# Altium schematic symbol library General IC.SchLib: 41 symbols
Pins are listed as number, name and electrical type; pins without a type are passive.

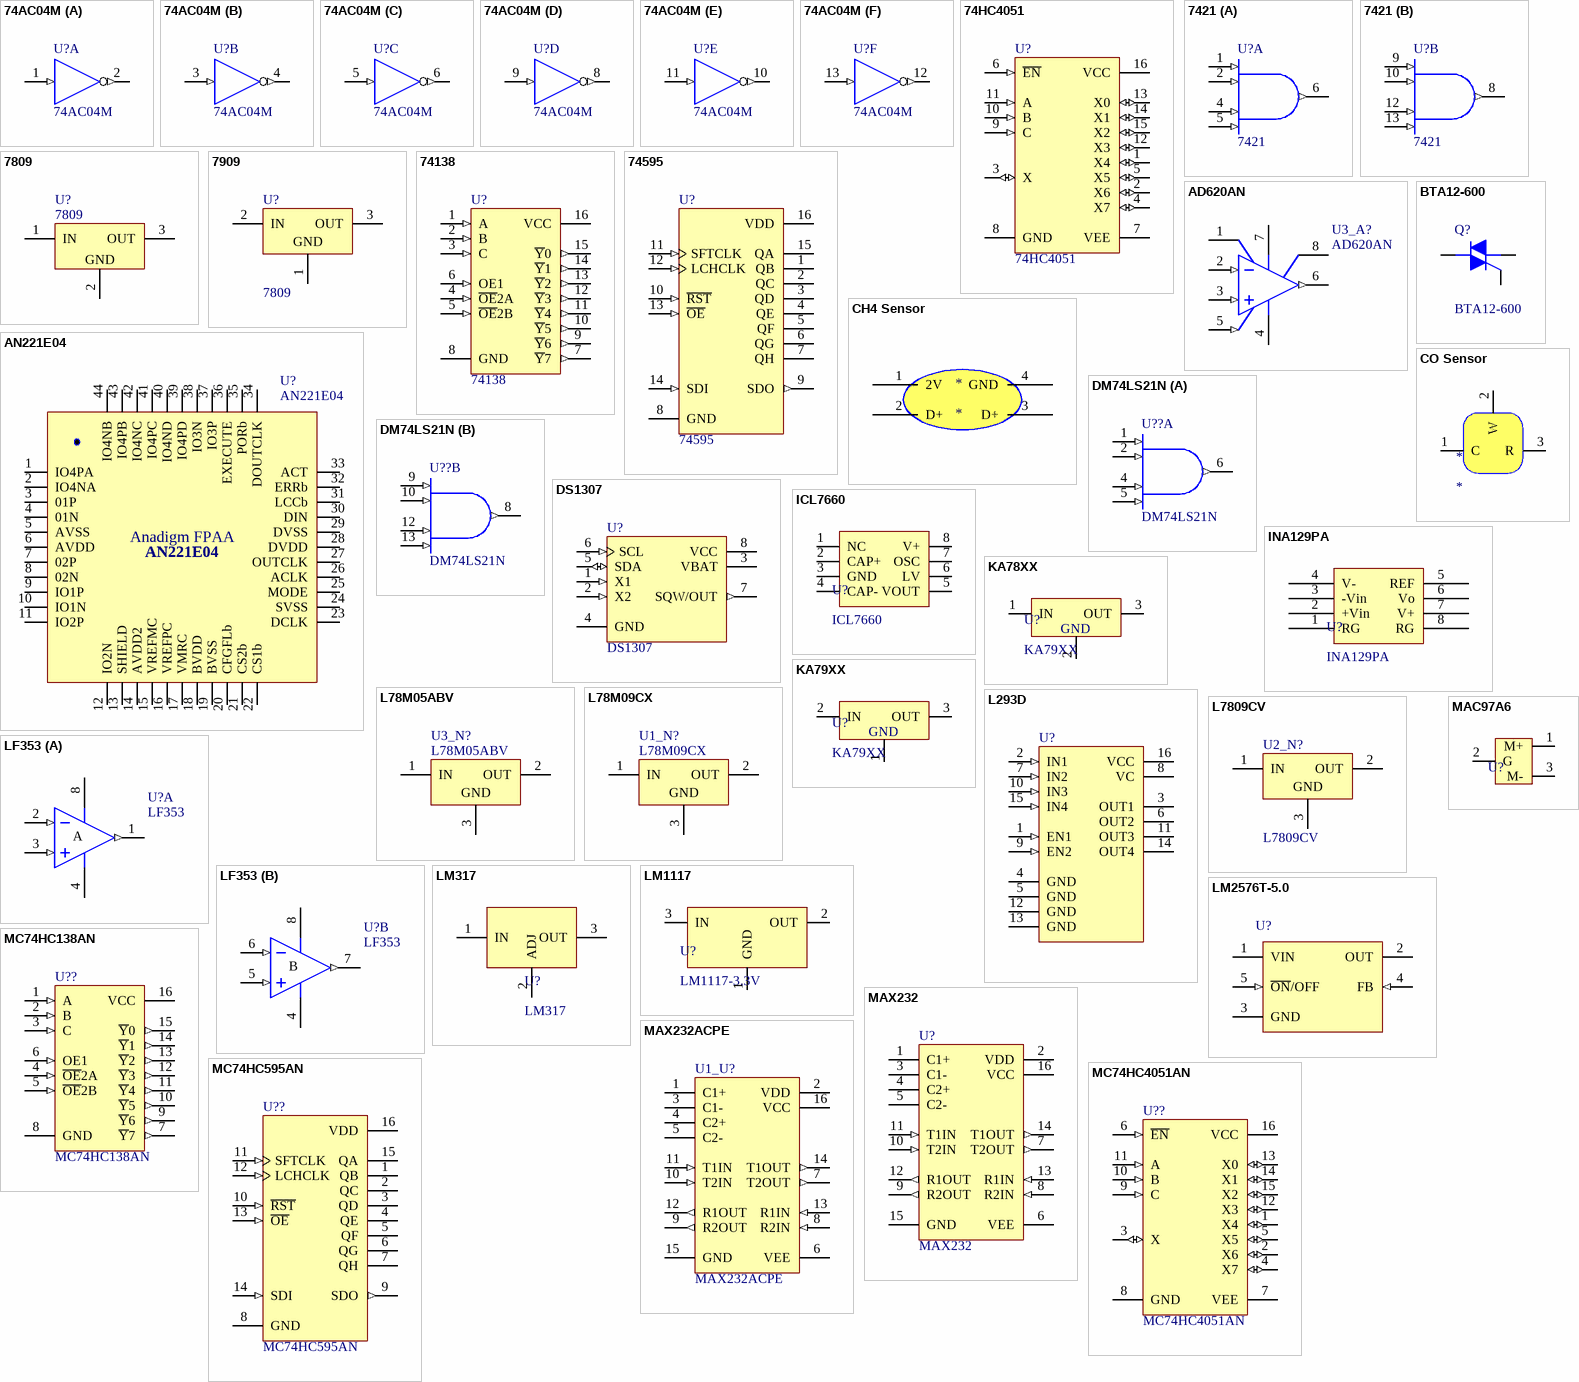
[diagram p0: symbols 74AC04M to MC74HC4051AN]

## 74AC04M
designator U?
Hex Inverter; Published: 8-Jun-2000; LatestRevisionDate: 17-Jul-2002; LatestRevisionNote: Re-released for DXP Platform.; DatasheetDocument: Apr-1997; PackageDocument: Sep-1998; PackageReference: SO14; Publisher: Altium Limited
footprint 74HC04 (SOIC, 14-Leads, Body 8.7x3.9mm, Pitch 1.27mm, IPC Low Density)
signal-integrity model 74AC04M
pins on every part: 7 GND (power) hidden to GND, 14 VCC (power) hidden to VCC
part A pins: 1 A (in), 2 Y (out)
part B pins: 3 A (in), 4 Y (out)
part C pins: 5 A (in), 6 Y (out)
part D pins: 8 Y (out), 9 A (in)
part E pins: 10 Y (out), 11 A (in)
part F pins: 12 Y (out), 13 A (in)

## 74HC4051
designator U?
Analog Multiplexer/Demultiplexer; Published: 17-Jul-2002; LatestRevisionDate: 06-Jun-2005; LatestRevisionNote: Stylized 3D Model Added; DatasheetVersion: Mar-2000; PackageReference: 648-08; Publisher: Altium Limited; PackageDescription: DIP; 16 Leads; Row Spacing 7.62 mm; Pitch 2.54 mm; Code_JEDEC: MS-001-BB; ComponentLink1Description: Manufacturer Link; ComponentLink1URL: http://www.onsemi.com/site/products/parametrics/0,4446,47,00.html; ComponentLink2Description: Datasheet; ComponentLink2URL: http://www.onsemi.com/pub/Collateral/MC74HC4051A-D.PDF
footprint DIP.100/16/W.300/L.900
pins: 1 X4 (io), 2 X6 (io), 3 X (io), 4 X7 (io), 5 X5 (io), 6 ~{EN} (in), 7 VEE (power), 8 GND (power), 9 C (in), 10 B (in), 11 A (in), 12 X3 (io), 13 X0 (io), 14 X1 (io), 15 X2 (io), 16 VCC (power)

## 7421
designator U?
Dual 4-Input AND Gates; Note: Pins 3 and 11 are NC & not drawn; Published: 15-Apr-2002; LatestRevisionDate: 06-Jun-2005; LatestRevisionNote: Stylized 3D Model Added.; DatasheetVersion: Jun-1989; PackageVersion: 2000; PackageReference: N14A; Publisher: Altium Limited; PackageDescription: DIP; 14 Leads; Row Spacing 7.62 mm; Pitch 2.54 mm; ComponentLink1Description: Manufacturer Link; ComponentLink1URL: http://www.national.com/
footprint DIP.100/14/W.300/L.900
pins on every part: 7 GND (power) hidden to GND, 14 VCC (power) hidden to VCC
part A pins: 1 A (in), 2 B (in), 4 C (in), 5 D (in), 6 Y (out)
part B pins: 8 Y (out), 9 A (in), 10 B (in), 12 C (in), 13 D (in)

## 7809
designator U?
Positive Voltage Regulator; Note: Tab is connected to pin 3 (GND).; Published: 24-Aug-2001; LatestRevisionDate: 17-Jul-2002; LatestRevisionNote: Re-released for DXP Platform.; DatasheetVersion: Apr-1994; PackageReference: SOT82C; Publisher: Altium Limited; PackageDescription: SIP; 3 Leads; Body 10.9 x 7.6 x 2.6 mm (typ); Pitch 2.2 mm; ComponentLink1Description: Manufacturer Link; ComponentLink1URL: http://www.st.com/; ComponentLink2Description: Datasheet; ComponentLink2URL: http://www.st.com/stonline/products/literature/ds/2146/l78m05c.pdf
footprint HDR1x3 BIG (3 chan cam 7805, BJT to, FET to...)
pins: 1 IN (power), 2 GND (power), 3 OUT (power)

## 7909
designator U?, comment 7809
Positive Voltage Regulator; Note: Tab is connected to pin 3 (GND).; Published: 24-Aug-2001; LatestRevisionDate: 17-Jul-2002; LatestRevisionNote: Re-released for DXP Platform.; DatasheetVersion: Dec-1998; PackageVersion: Jun-1998; PackageReference: TO220ABN; Publisher: Altium Limited; PackageDescription: TO, Thru-Hole, Vertical, Heatsink Mounted; 3 In-Line Leads; Pitch 2.54 mm; Pin sequence 1, 3, 2; ComponentLink1Description: Manufacturer Link; ComponentLink1URL: http://www.st.com/
footprint HDR1x3 BIG (3 chan cam 7805, BJT to, FET to...)
pins: 1 GND (power), 2 IN (power), 3 OUT (power)

## 74138
designator U?
1-of-8 Decoder/Demultiplexer; Published: 15-Apr-2002; DatasheetVersion: Mar-2000; PackageVersion: Apr-2000; PackageReference: 648-08; Publisher: Altium Limited; PackageDescription: DIP; 16 Leads; Row Spacing 7.62 mm; Pitch 2.54 mm; Code_JEDEC: MS-001-BB; ComponentLink1Description: Manufacturer Link; ComponentLink1URL: http://www.onsemi.com/; ComponentLink2Description: Datasheet; ComponentLink2URL: http://www.onsemi.com/pub/Collateral/MC74HC138A-D.PDF
footprint DIP.100/16/W.300/L.900
signal-integrity model MC74HC138AN
pins: 1 A (in), 2 B (in), 3 C (in), 4 ~{OE}2A (in), 5 ~{OE}2B (in), 6 OE1 (in), 7 ~{Y}7 (out), 8 GND (power), 9 ~{Y}6 (out), 10 ~{Y}5 (out), 11 ~{Y}4 (out), 12 ~{Y}3 (out), 13 ~{Y}2 (out), 14 ~{Y}1 (out), 15 ~{Y}0 (out), 16 VCC (power)

## 74595
designator U?
8-Bit Serial-Input/Serial or Prallel-Output Shift Register with Latched 3-State Outputs; Published: 15-Apr-2002; DatasheetVersion: Mar-2000; PackageVersion: Apr-2000; PackageReference: 648-08; Publisher: Altium Limited; PackageDescription: DIP; 16 Leads; Row Spacing 7.62 mm; Pitch 2.54 mm; Code_JEDEC: MS-001-BB; ComponentLink1Description: Manufacturer Link; ComponentLink1URL: http://www.onsemi.com/; ComponentLink2Description: Datasheet; ComponentLink2URL: http://www.onsemi.com/pub/Collateral/MC74HC595A-D.PDF
footprint DIP.100/16/W.300/L.900
signal-integrity model MC74HC595AN
pins: 1 QB (hiz), 2 QC (hiz), 3 QD (hiz), 4 QE (hiz), 5 QF (hiz), 6 QG (hiz), 7 QH (hiz), 8 GND (power), 9 SDO (out), 10 ~{RST} (in), 11 SFTCLK (in), 12 LCHCLK (in), 13 ~{OE} (in), 14 SDI (in), 15 QA (hiz), 16 VDD (power)

## AD620AN
designator U3_A?
Low-Cost, Low-Power Instrumentation Amplifier; Published: 8-Jun-2000; LatestRevisionDate: 04-Mar-2005; LatestRevisionNote: Stylized 3D Model Added.; DatasheetVersion: REV.D 1998; PackageVersion: revA; PackageReference: N-8; Publisher: Altium Limited; PackageDescription: DIP; 8 Leads; Row Spacing 7.62 mm; Pitch 2.54 mm; ComponentLink1Description: Manufacturer Link; ComponentLink1URL: http://www.analog.com/en/prod/0%2C2877%2CAD620%2C00.html; ComponentLink2Description: Datasheet; ComponentLink2URL: http://www.analog.com/UploadedFiles/Data_Sheets/897653854AD620_g.pdf
footprint DIP.100/8/W.300/L.400
pins: 1 RG, 2 -IN (in), 3 +IN (in), 4 V- (power), 5 REF (in), 6 OUT (out), 7 V+ (power), 8 RG

## AN221E04
designator U?
Anadigm FPAA - AN221E04; Productor: Anadigm; Creator: Bien Nguyen
footprint TQFP (QFP, 44-Leads, Body 10x10mm, Pitch 0.8mm, IPC High Density)
pins: 1 IO4PA, 2 IO4NA, 3 01P, 4 01N, 5 AVSS, 6 AVDD, 7 02P, 8 02N, 9 IO1P, 10 IO1N, 11 IO2P, 12 IO2N, 13 SHIELD, 14 AVDD2, 15 VREFMC, 16 VREFPC, 17 VMRC, 18 BVDD, 19 BVSS, 20 CFGFLb, 21 CS2b, 22 CS1b, 23 DCLK, 24 SVSS, 25 MODE, 26 ACLK, 27 OUTCLK, 28 DVDD, 29 DVSS, 30 DIN, 31 LCCb, 32 ERRb, 33 ACT, 34 DOUTCLK, 35 PORb, 36 EXECUTE, 37 IO3P, 38 IO3N, 39 IO4PD, 40 IO4ND, 41 IO4PC, 42 IO4NC, 43 IO4PB, 44 IO4NB
2 alternate drawings of the same symbol
text: Anadigm FPAA

## BTA12-600
designator Q?
Silicon Bidirectional Triode Thyristor; Note: Pin 2 is electrically connected to Pin 4 (TAB); Published: 29-Sep-2000; LatestRevisionDate: 17-Jul-2002; LatestRevisionNote: Re-released for DXP Platform.; DatasheetDocument: 1999; PackageReference: 369-03; Publisher: Altium Limited; Code_JEDEC: TO-251-AA; ComponentLink1Description: Manufacturer Link; ComponentLink1URL: http://www.motorola.com/
footprint BTA6-600 (TRIAC BTA6/6A/600V)
pins: 1 M1, 2 M2, 3 G

## CH4 Sensor
designator *
footprint CH4 Sensor
pins: 1 2V, 2 D+, 3 D+, 4 GND

## CO Sensor
designator *
footprint CO Sensor
pins: 1 C, 2 W, 3 R

## DM74LS21N
designator U??
Dual 4-Input AND Gates; Note: Pins 3 and 11 are NC & not drawn; Published: 15-Apr-2002; LatestRevisionDate: 06-Jun-2005; LatestRevisionNote: Stylized 3D Model Added.; DatasheetVersion: Jun-1989; PackageVersion: 2000; PackageReference: N14A; Publisher: Altium Limited; PackageDescription: DIP; 14 Leads; Row Spacing 7.62 mm; Pitch 2.54 mm; ComponentLink1Description: Manufacturer Link; ComponentLink1URL: http://www.national.com/
footprint DIP.100/14/W.300/L.900
pins on every part: 7 GND (power) hidden to GND, 14 VCC (power) hidden to VCC
part A pins: 1 A (in), 2 B (in), 4 C (in), 5 D (in), 6 Y (out)
part B pins: 8 Y (out), 9 A (in), 10 B (in), 12 C (in), 13 D (in)

## DS1307
designator U?
64 X 8 Serial Real-Time Clock; Published: 13-Oct-2000; LatestRevisionDate: 06-Jun-2005; LatestRevisionNote: Stylized 3D Model Added.; DatasheetVersion: 10-Aug-1999; PackageVersion: 1999; PackageReference: DIP8; Publisher: Altium Limited; PackageDescription: DIP; 8 Leads; Row Spacing 7.62 mm; Pitch 2.54 mm; ComponentLink1Description: Manufacturer Link; ComponentLink1URL: http://www.maxim-ic.com/; ComponentLink2Description: Datasheet; ComponentLink2URL: http://pdfserv.maxim-ic.com/en/ds/DS1307.pdf; ComponentLink3Description: Discontinuation Notice; ComponentLink3URL: http://www.maxim-ic.com/qa/pdfs/non-obsolescence-letter.pdf
footprint DIP.100/8/W.300/L.400
pins: 1 X1 (in), 2 X2 (in), 3 VBAT (power), 4 GND (power), 5 SDA (io), 6 SCL (in), 7 SQW/OUT (out), 8 VCC (power)

## ICL7660
designator U?
CMOS Voltage Converters; Creator: Nguyen Ba Bien
footprint DIP.100/8/W.300/L.400
pins: 1 NC, 2 CAP+, 3 GND, 4 CAP-, 5 VOUT, 6 LV, 7 OSC, 8 V+

## INA129PA
designator U?
footprint DIP.100/8/W.300/L.400
pins: 1 RG, 2 +Vin, 3 -Vin, 4 V-, 5 REF, 6 Vo, 7 V+, 8 RG

## KA78XX
designator U?, comment KA79XX
1A Regulator
footprint TO-220
pins: 1 IN, 2, 3 OUT
text: GND

## KA79XX
designator U?
1A Regulator
footprint TO-220
pins: 1, 2 IN, 3 OUT
text: GND

## L78M05ABV
designator U3_N?
Precision 500mA Regulator; Note: Tab is connected to pin 3 (GND).; Published: 24-Aug-2001; LatestRevisionDate: 17-Jul-2002; LatestRevisionNote: Re-released for DXP Platform.; DatasheetVersion: Mar-1997; PackageReference: TO220V; Publisher: Altium Limited; PackageDescription: TO, Thru-Hole, Vertical, Heatsink Mounted; 3 In-Line Leads; Pitch 2.54 mm; Pin sequence 1, 3, 2; ComponentLink1Description: Manufacturer Link; ComponentLink1URL: http://www.st.com/; ComponentLink2Description: Datasheet; ComponentLink2URL: http://www.st.com/stonline/products/literature/ds/2147/l78m05ab.pdf
footprint HDR1x3 BIG (3 chan cam 7805, BJT to, FET to...)
pins: 1 IN (power), 2 OUT (power), 3 GND (power)

## L78M09CX
designator U1_N?
Positive Voltage Regulator; Note: Tab is connected to pin 3 (GND).; Published: 24-Aug-2001; LatestRevisionDate: 17-Jul-2002; LatestRevisionNote: Re-released for DXP Platform.; DatasheetVersion: Apr-1994; PackageReference: SOT82C; Publisher: Altium Limited; PackageDescription: SIP; 3 Leads; Body 10.9 x 7.6 x 2.6 mm (typ); Pitch 2.2 mm; ComponentLink1Description: Manufacturer Link; ComponentLink1URL: http://www.st.com/; ComponentLink2Description: Datasheet; ComponentLink2URL: http://www.st.com/stonline/products/literature/ds/2146/l78m05c.pdf
footprint HDR1x3 BIG (3 chan cam 7805, BJT to, FET to...)
pins: 1 IN (power), 2 OUT (power), 3 GND (power)

## L293D
designator U?
Push-Pull Four Channel Driver With Diode; Published: 8-Jun-2000; LatestRevisionDate: 06-Jun-2005; LatestRevisionNote: Stylized 3D Model Added.; DatasheetVersion: Jun-1996; PackageVersion: Apr-1996; PackageReference: DIP16; Publisher: Altium Limited; PackageDescription: DIP; 16 Leads; Row Spacing 7.62 mm; Pitch 2.54 mm; ComponentLink1Description: Manufacturer Link; ComponentLink1URL: http://www.st.com/; ComponentLink2Description: Datasheet; ComponentLink2URL: http://www.st.com/stonline/products/literature/ds/1330/l293d.pdf
footprint DIP.100/16/W.300/L.900
pins: 1 EN1 (in), 2 IN1 (in), 3 OUT1 (hiz), 4 GND (power), 5 GND (power), 6 OUT2 (hiz), 7 IN2 (in), 8 VC (power), 9 EN2 (in), 10 IN3 (in), 11 OUT3 (hiz), 12 GND (power), 13 GND (power), 14 OUT4 (hiz), 15 IN4 (in), 16 VCC (power)

## L7809CV
designator U2_N?
Positive Voltage Regulator; Note: Tab is connected to pin 3 (GND).; Published: 24-Aug-2001; LatestRevisionDate: 17-Jul-2002; LatestRevisionNote: Re-released for DXP Platform.; DatasheetVersion: Dec-1998; PackageVersion: Jun-1998; PackageReference: TO220ABN; Publisher: Altium Limited; PackageDescription: TO, Thru-Hole, Vertical, Heatsink Mounted; 3 In-Line Leads; Pitch 2.54 mm; Pin sequence 1, 3, 2; ComponentLink1Description: Manufacturer Link; ComponentLink1URL: http://www.st.com/
footprint HDR1x3 BIG (3 chan cam 7805, BJT to, FET to...)
pins: 1 IN (power), 2 OUT (power), 3 GND (power)

## LF353
designator U?
Dual Operational Amplifier (JFET); Creator: Nguyen Ba Bien
footprint SOP127P636-8N (Footprint not found)
pins on every part: 4 V- (power), 8 V+ (power)
part A pins: 1 OUT (out), 2 IN- (in), 3 IN+ (in)
part B pins: 5 IN+ (in), 6 IN- (in), 7 OUT (out)
part A text: A
part B text: B

## LM317
designator U?
Contact Email: bien-nb@thanglongie.com; Creator: Nguyen Ba Bien
footprint TO-220
pins: 1 IN, 2 ADJ, 3 OUT

## LM1117
designator U?, comment LM1117-3.3V
800mA Low-Dropout Linear Regulator; Creator: Nguyen Ba Bien; Website: http://group3i.net
footprint LM1117-SOP
pins: 1 GND, 2 OUT, 3 IN

## LM2576T-5.0
designator U?
SIMPLE SWITCHER; 3A Step-Down Voltage Regulator; PartNumber: LM2576T-5.0; Manufacturer: National Semiconductor; PackageTopMarking: NSUZXYTT*LM2576T*-5.0 P+; PowerWise: N; FirstPublished: 4-Dec-2008; DatasheetVersion: Aug-2004; PackageVersion: revJ, Jan-1992; PackageReference: T05A; Publisher: Altium Limited; PackageDescription: TO-220, Molded, 5 Lead, Straight; CompType: Switcher; RoHS: O; PinCount: 5; DigiKeyPartNumber: LM2576T-5.0-ND; Code_JEDEC: TO-220-AB; ComponentLink1Description: LM2576 Datasheet; ComponentLink1URL: http://www.national.com/ds/LM/LM2576.pdf; ComponentLink2Description: LM2576 Web Page; ComponentLink2URL: http://www.national.com/pf/LM/LM2576.html; ComponentLink3Description: T05A Package Page; ComponentLink3URL: http://www.national.com/packaging/folders/t05a.html
footprint LM2576t
pins: 1 VIN (power), 2 OUT (power), 3 GND (power), 4 FB (in), 5 ~{ON}/OFF (in)

## MAC97A6
designator U?  (value not drawn)
pins: 1 M+, 2 G, 3 M-

## MAX232
designator U?
+5V Powered, Multi-Channel RS-232 Driver/Receiver; Published: 16-Jan-2001; LatestRevisionDate: 06-Jun-2005; LatestRevisionNote: Stylized 3D Model Added.; PackageVersion: 1997; PackageReference: PE16A; Publisher: Altium Limited; PackageDescription: DIP; 16 Leads; Row Spacing 7.62 mm; Pitch 2.54 mm; Code_JEDEC: MS-001-BB; ComponentLink1Description: Manufacturer Link; ComponentLink1URL: http://www.maxim-ic.com/; ComponentLink2Description: Datasheet; ComponentLink2URL: http://pdfserv.maxim-ic.com/en/ds/MAX220-MAX249.pdf
footprint DIP.100/16/W.300/L.900
pins: 1 C1+, 2 VDD (power), 3 C1-, 4 C2+, 5 C2-, 6 VEE (power), 7 T2OUT (out), 8 R2IN (in), 9 R2OUT (out), 10 T2IN (in), 11 T1IN (in), 12 R1OUT (out), 13 R1IN (in), 14 T1OUT (out), 15 GND (power), 16 VCC (power)

## MAX232ACPE
designator U1_U?
+5V Powered, Multi-Channel RS-232 Driver/Receiver; Published: 16-Jan-2001; LatestRevisionDate: 06-Jun-2005; LatestRevisionNote: Stylized 3D Model Added.; PackageVersion: 1997; PackageReference: PE16A; Publisher: Altium Limited; PackageDescription: DIP; 16 Leads; Row Spacing 7.62 mm; Pitch 2.54 mm; Code_JEDEC: MS-001-BB; ComponentLink1Description: Manufacturer Link; ComponentLink1URL: http://www.maxim-ic.com/; ComponentLink2Description: Datasheet; ComponentLink2URL: http://pdfserv.maxim-ic.com/en/ds/MAX220-MAX249.pdf
footprint DIP.100/16/W.300/L.900
pins: 1 C1+, 2 VDD (power), 3 C1-, 4 C2+, 5 C2-, 6 VEE (power), 7 T2OUT (out), 8 R2IN (in), 9 R2OUT (out), 10 T2IN (in), 11 T1IN (in), 12 R1OUT (out), 13 R1IN (in), 14 T1OUT (out), 15 GND (power), 16 VCC (power)

## MC74HC138AN
designator U??
1-of-8 Decoder/Demultiplexer; Published: 15-Apr-2002; DatasheetVersion: Mar-2000; PackageVersion: Apr-2000; PackageReference: 648-08; Publisher: Altium Limited; PackageDescription: DIP; 16 Leads; Row Spacing 7.62 mm; Pitch 2.54 mm; Code_JEDEC: MS-001-BB; ComponentLink1Description: Manufacturer Link; ComponentLink1URL: http://www.onsemi.com/; ComponentLink2Description: Datasheet; ComponentLink2URL: http://www.onsemi.com/pub/Collateral/MC74HC138A-D.PDF
footprint DIP.100/16/W.300/L.900
signal-integrity model MC74HC138AN
pins: 1 A (in), 2 B (in), 3 C (in), 4 ~{OE}2A (in), 5 ~{OE}2B (in), 6 OE1 (in), 7 ~{Y}7 (out), 8 GND (power), 9 ~{Y}6 (out), 10 ~{Y}5 (out), 11 ~{Y}4 (out), 12 ~{Y}3 (out), 13 ~{Y}2 (out), 14 ~{Y}1 (out), 15 ~{Y}0 (out), 16 VCC (power)

## MC74HC595AN
designator U??
8-Bit Serial-Input/Serial or Prallel-Output Shift Register with Latched 3-State Outputs; Published: 15-Apr-2002; DatasheetVersion: Mar-2000; PackageVersion: Apr-2000; PackageReference: 648-08; Publisher: Altium Limited; PackageDescription: DIP; 16 Leads; Row Spacing 7.62 mm; Pitch 2.54 mm; Code_JEDEC: MS-001-BB; ComponentLink1Description: Manufacturer Link; ComponentLink1URL: http://www.onsemi.com/; ComponentLink2Description: Datasheet; ComponentLink2URL: http://www.onsemi.com/pub/Collateral/MC74HC595A-D.PDF
footprint DIP.100/16/W.300/L.900
signal-integrity model MC74HC595AN
pins: 1 QB (hiz), 2 QC (hiz), 3 QD (hiz), 4 QE (hiz), 5 QF (hiz), 6 QG (hiz), 7 QH (hiz), 8 GND (power), 9 SDO (out), 10 ~{RST} (in), 11 SFTCLK (in), 12 LCHCLK (in), 13 ~{OE} (in), 14 SDI (in), 15 QA (hiz), 16 VDD (power)

## MC74HC4051AN
designator U??
Analog Multiplexer/Demultiplexer; Published: 17-Jul-2002; LatestRevisionDate: 06-Jun-2005; LatestRevisionNote: Stylized 3D Model Added; DatasheetVersion: Mar-2000; PackageReference: 648-08; Publisher: Altium Limited; PackageDescription: DIP; 16 Leads; Row Spacing 7.62 mm; Pitch 2.54 mm; Code_JEDEC: MS-001-BB; ComponentLink1Description: Manufacturer Link; ComponentLink1URL: http://www.onsemi.com/site/products/parametrics/0,4446,47,00.html; ComponentLink2Description: Datasheet; ComponentLink2URL: http://www.onsemi.com/pub/Collateral/MC74HC4051A-D.PDF
footprint DIP.100/16/W.300/L.900
pins: 1 X4 (io), 2 X6 (io), 3 X (io), 4 X7 (io), 5 X5 (io), 6 ~{EN} (in), 7 VEE (power), 8 GND (power), 9 C (in), 10 B (in), 11 A (in), 12 X3 (io), 13 X0 (io), 14 X1 (io), 15 X2 (io), 16 VCC (power)

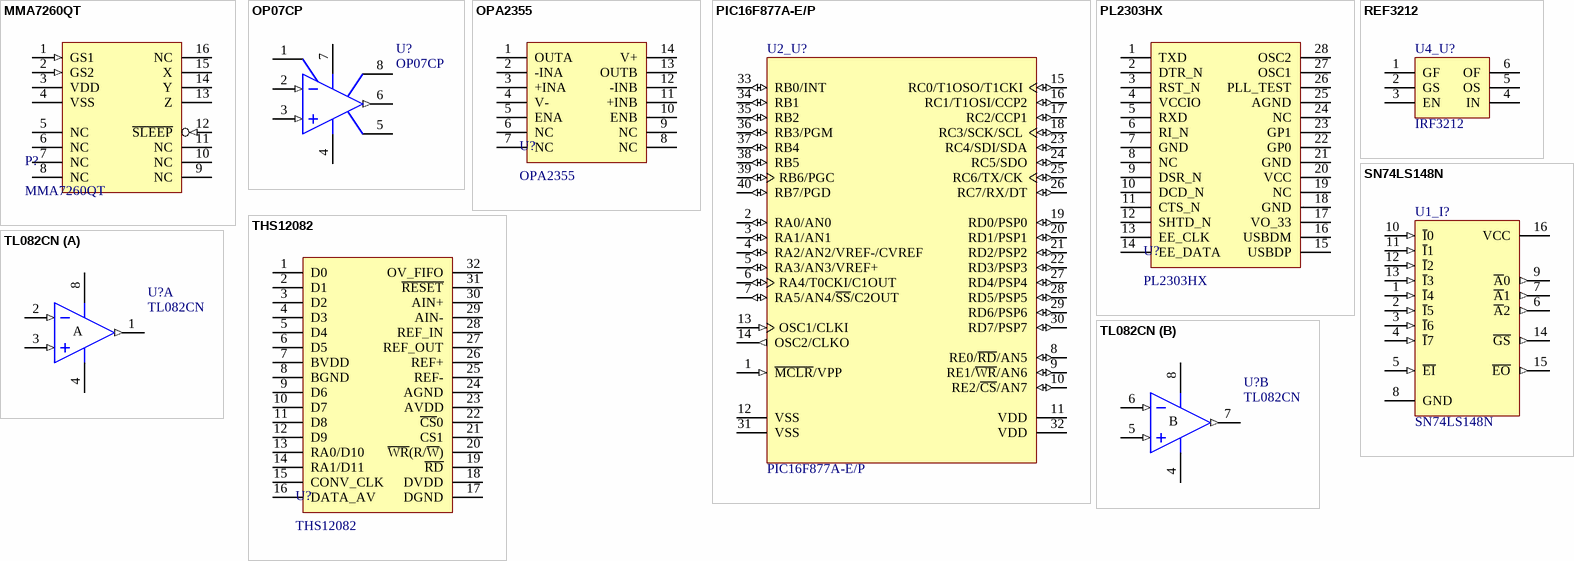
[diagram p1: symbols MMA7260QT to TL082CN]

## MMA7260QT
designator P?
16 Pins QFN
footprint QFN16 (QFN 16 LEAD 6x6mm)
pins: 1 GS1 (in), 2 GS2 (in), 3 VDD (power), 4 VSS (power), 5 NC, 6 NC, 7 NC, 8 NC, 9 NC, 10 NC, 11 NC, 12 ~{SLEEP} (in), 13 Z, 14 Y, 15 X, 16 NC

## OP07CP
designator U?
Ultra-Low Offset Voltage Operational Amplifier; Note: Pin 5 is not connected.; Published: 8-Jun-2000; LatestRevisionDate: 04-Mar-2005; LatestRevisionNote: Stylized 3D Model Added.; DatasheetVersion: 1992; PackageReference: N-8_A; Publisher: Altium Limited; PackageDescription: DIP; 8 Leads; Row Spacing 7.62 mm; Pitch 2.54 mm; Code_JEDEC: MO-001-AN; ComponentLink1Description: Manufacturer Link; ComponentLink1URL: http://www.analog.com/en/prod/0,,759_786_OP07%2C00.html; ComponentLink2Description: Datasheet; ComponentLink2URL: http://www.analog.com/UploadedFiles/Data_Sheets/39161232478959OP07_c.pdf
footprint DIP.100/8/W.300/L.400
pins: 1 VOSTRIM, 2 IN- (in), 3 IN+ (in), 4 V- (power), 5 NC, 6 OUT (out), 7 V+ (power), 8 VOSTRIM

## OPA2355
designator U?
pins: 1 OUTA, 2 -INA, 3 +INA, 4 V-, 5 ENA, 6 NC, 7 NC, 8 NC, 9 NC, 10 ENB, 11 +INB, 12 -INB, 13 OUTB, 14 V+

## PIC16F877A-E/P
designator U2_U?
Enhanced FLASH Microcontroller, 8K (x14-Bit words) FLASH, 368 Bytes RAM, 40-Pin PDIP, Standard VDD Range, Extended Temperature; PackageDocument: 2003; Note: 25mA sink/source per I/O.; Published: 11-Oct-2004; LatestRevisionDate: 4-Mar-2005; LatestRevisionNote: Stylized 3D Model Added.; DatasheetDocument: DS39582B_2003; PackageReference: PDIP600-40; Publisher: Altium Limited; Code_JEDEC: MO-011; ComponentLink1Description: Manufacturer Link; ComponentLink1URL: http://www.microchip.com/index.asp; ComponentLink2Description: Datasheet; ComponentLink2URL: http://ww1.microchip.com/downloads/en/DeviceDoc/39582b.pdf; ComponentLink3Description: Packaging Specification; ComponentLink3URL: http://ww1.microchip.com/downloads/en/PackagingSpec/00049AD.pdf
footprint DIP.100/40/W.600/L2.100
pins: 1 ~{MCLR}/VPP (in), 2 RA0/AN0 (io), 3 RA1/AN1 (io), 4 RA2/AN2/VREF-/CVREF (io), 5 RA3/AN3/VREF+ (io), 6 RA4/T0CKI/C1OUT (io), 7 RA5/AN4/~{SS}/C2OUT (io), 8 RE0/~{RD}/AN5 (io), 9 RE1/~{WR}/AN6 (io), 10 RE2/~{CS}/AN7 (io), 11 VDD (power), 12 VSS (power), 13 OSC1/CLKI (in), 14 OSC2/CLKO (out), 15 RC0/T1OSO/T1CKI (io), 16 RC1/T1OSI/CCP2 (io), 17 RC2/CCP1 (io), 18 RC3/SCK/SCL (io), 19 RD0/PSP0 (io), 20 RD1/PSP1 (io), 21 RD2/PSP2 (io), 22 RD3/PSP3 (io), 23 RC4/SDI/SDA (io), 24 RC5/SDO (io), 25 RC6/TX/CK (io), 26 RC7/RX/DT (io), 27 RD4/PSP4 (io), 28 RD5/PSP5 (io), 29 RD6/PSP6 (io), 30 RD7/PSP7 (io), 31 VSS (power), 32 VDD (power), 33 RB0/INT (io), 34 RB1 (io), 35 RB2 (io), 36 RB3/PGM (io), 37 RB4 (io), 38 RB5 (io), 39 RB6/PGC (io), 40 RB7/PGD (io)

## PL2303HX
designator U?
PL-2303 USB to RS-232 Bridge Controller; Creator: Nguyen Ba Bien; Date Created: 15/04/2010; Footprint: SSOP28/TQFP32
footprint PL2303-HX
pins: 1 TXD, 2 DTR_N, 3 RST_N, 4 VCCIO, 5 RXD, 6 RI_N, 7 GND, 8 NC, 9 DSR_N, 10 DCD_N, 11 CTS_N, 12 SHTD_N, 13 EE_CLK, 14 EE_DATA, 15 USBDP, 16 USBDM, 17 VO_33, 18 GND, 19 NC, 20 VCC, 21 GND, 22 GP0, 23 GP1, 24 NC, 25 AGND, 26 PLL_TEST, 27 OSC1, 28 OSC2

## REF3212
designator U4_U?, comment IRF3212
Company: Texas Instrumention
footprint REF3212
pins: 1 GF, 2 GS, 3 EN, 4 IN, 5 OS, 6 OF

## SN74LS148N
designator U1_I?
8-Line-to-3-Line Priority Encoder; Published: 15-Apr-2002; DatasheetVersion: Dec-1999; PackageVersion: Apr-2000; PackageReference: 648-08; Publisher: Altium Limited; PackageDescription: DIP; 16 Leads; Row Spacing 7.62 mm; Pitch 2.54 mm; Code_JEDEC: MS-001-BB; ComponentLink1Description: Manufacturer Link; ComponentLink1URL: http://www.onsemi.com/; ComponentLink2Description: Datasheet; ComponentLink2URL: http://www.onsemi.com/pub/Collateral/SN74LS147-D.PDF
footprint DIP.100/16/W.300/L.900
signal-integrity model SN74LS259N
pins: 1 ~{I}4 (in), 2 ~{I}5 (in), 3 ~{I}6 (in), 4 ~{I}7 (in), 5 ~{EI} (in), 6 ~{A}2 (out), 7 ~{A}1 (out), 8 GND (power), 9 ~{A}0 (out), 10 ~{I}0 (in), 11 ~{I}1 (in), 12 ~{I}2 (in), 13 ~{I}3 (in), 14 ~{GS} (out), 15 ~{EO} (out), 16 VCC (power)

## THS12082
designator U?
footprint TSSOP40P640-32L (TSSOP, 32-Leads, Body 6.5x4.4mm, Pitch 0.4mm, IPC High Density)
pins: 1 D0, 2 D1, 3 D2, 4 D3, 5 D4, 6 D5, 7 BVDD, 8 BGND, 9 D6, 10 D7, 11 D8, 12 D9, 13 RA0/D10, 14 RA1/D11, 15 CONV_CLK, 16 DATA_AV, 17 DGND, 18 DVDD, 19 ~{RD}, 20 ~{WR}(R/~{W}), 21 CS1, 22 ~{CS}0, 23 AVDD, 24 AGND, 25 REF-, 26 REF+, 27 REF_OUT, 28 REF_IN, 29 AIN-, 30 AIN+, 31 ~{RESET}, 32 OV_FIFO

## TL082CN
designator U?
General-Purpose J-FET Dual Operational Amplifier; Published: 24-Aug-2001; LatestRevisionDate: 06-Jun-2005; LatestRevisionNote: Stylized 3D Model Added.; DatasheetVersion: Jan-1999; PackageReference: DIP8; Publisher: Altium Limited; PackageDescription: DIP; 8 Leads; Row Spacing 7.62 mm; Pitch 2.54 mm; Code_JEDEC: MO-001-AN; ComponentLink1Description: Manufacturer Link; ComponentLink1URL: http://www.st.com/; ComponentLink2Description: Datasheet; ComponentLink2URL: http://www.st.com/stonline/products/literature/ds/2300/tl082.pdf
footprint DIP.100/8/W.300/L.400
pins on every part: 4 V- (power), 8 V+ (power)
part A pins: 1 OUT (out), 2 IN- (in), 3 IN+ (in)
part B pins: 5 IN+ (in), 6 IN- (in), 7 OUT (out)
part A text: A
part B text: B